# Altium integrated library CD15ED300JO3F.IntLib: 2 symbols
Pins are listed as number, name and electrical type; pins without a type are passive.

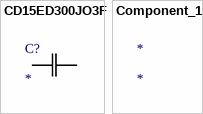
[diagram p0: symbols CD15ED300JO3F to Component_1]

## CD15ED300JO3F
designator C?
No Description Available; Mfr_Name: Cornell Dubilier; Type: Mica and PTFE Capacitors
footprint CAP_CD15_CND
pins: 1, 2

## Component_1
designator *